# EAGLE library part XF2M-0615-1A (library GeigerCounter)
XF2M-0615-1A
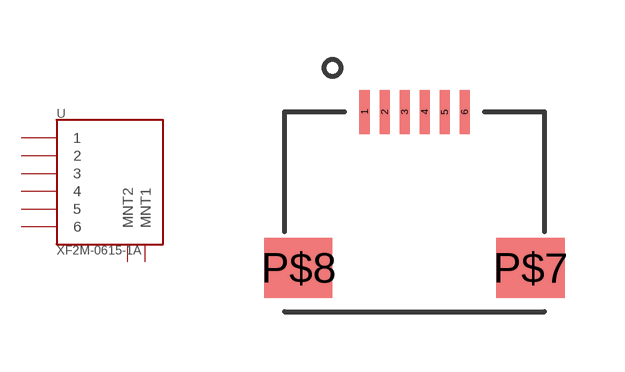
[diagram p0: symbol with the pads of XF2M-0615-1A; footprint XF2M-0615-1A]

Designator prefix -

## XF2M-0615-1A  [XF2M-0615-1A]
1  1
2  2
3  3
4  4
5  5
6  6
P$7  MNT1  nc
P$8  MNT2  nc

## Footprint XF2M-0615-1A (pad centres in mm)
XF2M-0615-1A Footprint
smd 0.25 x 1.1: 1 -1.27,2.54; 2 -0.77,2.54; 3 -0.27,2.54; 4 0.23,2.54; 5 0.73,2.54; 6 1.23,2.54
smd 1.7 x 1.5: P$7 2.88,-1.36; P$8 -2.92,-1.36